# Altium footprint library ARCOM_Transistors.PcbLib: 22 footprints (part 1 of 2)
Each footprint in its own frame and in the unit in brackets; x right, y up, seen from the top. Pads: shape width x height; smd on the part's side, far side on the other; paste and mask are expansions set on the pad; w line width, h text height; cw(c..) or ccw(c..) is an arc to the next point about the centre after c.
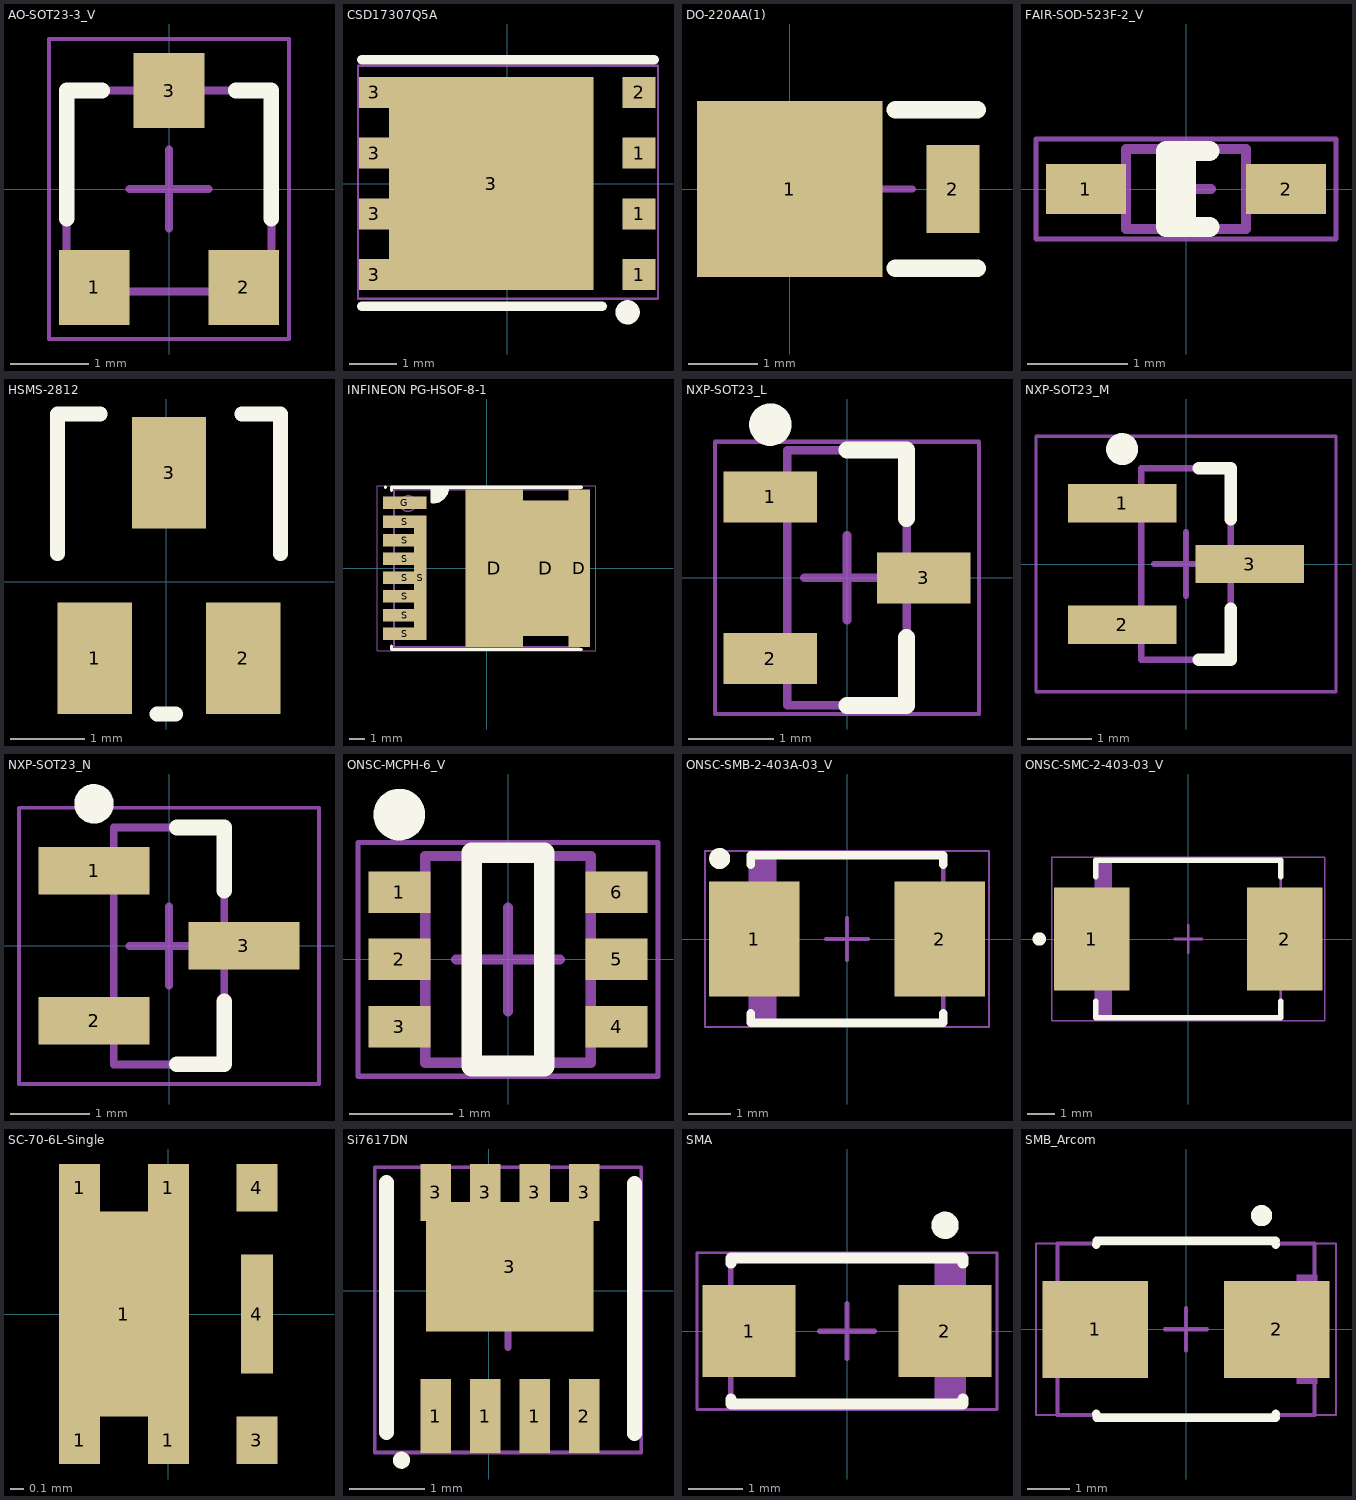
[diagram p0: the footprints below, top view; thin cyan lines are the x and y axes]

## AO-SOT23-3_V [mm] "SOT23, 3-Leads, Body 3.016x2.8mm, Pitch 0.95mm"
pads (3):
  rect 0.9x0.95 smd: 1(-0.95,-1.25) 2(0.95,-1.25) 3(0,1.25)
Top Overlay:
  lines w0.2: -1.3,-0.375 -1.3,1.25 -0.85,1.25 ; 0.85,1.25 1.3,1.25 1.3,-0.375
Mechanical 7:
  rectangle: -0.3,1.25 0.3,1.5
  region: -0.625,-1.275 -1.225,-1.275 -1.225,-1.525 -0.625,-1.525
  region: 1.225,-1.275 0.625,-1.275 0.625,-1.525 1.225,-1.525
  lines w0.1: -1.3,-1.3 -1.3,1.25 1.3,1.25 1.3,-1.3 -1.3,-1.3
M15 Top Assy:
  lines w0.05: -1.524,-1.905 -1.524,1.905 1.524,1.905 1.524,-1.905 -1.524,-1.905
  lines w0.1: -0.5,0 0.5,0 ; 0,-0.5 0,0.5
3D body: height 0.13, standoff 0, extent -0.239,0.651 0.268,1.362
3D body: height 0.13, standoff 0, extent 0.663,-1.254 1.17,-0.543
3D body: height 1.25, standoff 0, extent -1.142,-0.543 1.171,0.651
3D body: height 0.13, standoff 0, extent -1.115,-1.254 -0.608,-0.543

## CSD17307Q5A [mm]
pads (9):
  rect 0.7x0.65 smd mask+0.051: 1(2.752,-1.905) 1(2.752,-0.635) 1(2.752,0.635) 2(2.752,1.905)
  rect 0.63x0.65 smd mask+0.051: 3(-2.788,1.905) 3(-2.787,-1.905) 3(-2.787,-0.635) 3(-2.787,0.635)
  rect 4.27x4.46 smd mask+0.051: 3(-0.337,0)
Top Overlay:
  circle w0.254: c2.515,-2.692 r0.127
  lines w0.2: -3.048,-2.565 1.981,-2.565 ; -3.048,2.591 3.073,2.591
M15 Top Assy:
  lines w0.05: -3.124,-2.413 3.15,-2.413 3.15,2.464 -3.124,2.464 -3.124,-2.413
  lines w0.1: -0.5,0 0.5,0 ; 0,-0.5 0,0.5
3D body "CSD17307Q5A.stp": height 1.15, standoff 0, extent -3.13,-2.438 3.13,2.462

## DO-220AA(1) [mm]
pads (2):
  rect 2.67x2.54 smd: 1(0,0)
  rect 0.762x1.27 smd: 2(2.351,0)
Top Overlay:
  lines w0.254: 1.524,-1.143 2.702,-1.143 ; 1.524,1.143 2.702,1.143
M15 Top Assy:
  lines w0.1: 0.77,0 1.77,0 ; 1.27,-0.5 1.27,0.5
3D body "User Library-DO-220AA-1.STEP": height 1.15, standoff 0, extent -1.221,-1.17 2.708,1.137

## FAIR-SOD-523F-2_V [mm] "SMD, 2-Leads, Body 1.2x0.8mm, Height 0.7mm"
height 0.7
pads (2):
  rect 0.8x0.5 smd: 1(-1,0) 2(1,0)
Top Overlay:
  lines w0.2: 0,-0.381 0,0.381 ; 0.236,-0.381 -0.2,-0.381 -0.2,0.381 0.236,0.381
Mechanical 13:
  lines w0.1: -0.6,-0.4 0.6,-0.4 0.6,0.4 -0.6,0.4 -0.6,-0.4
M15 Top Assy:
  lines w0.05: -1.5,-0.5 1.5,-0.5 1.5,0.5 -1.5,0.5 -1.5,-0.5
  lines w0.1: -0.25,0 0.25,0 ; 0,-0.25 0,0.25
3D body: height 0.71, standoff 0.01, extent -0.6,-0.4 0.6,0.4

## HSMS-2812 [mm]
pads (3):
  rect 1x1.5 smd: 1(-0.964,-1.028) 2(1.036,-1.028) 3(0.036,1.472)
Top Overlay:
  lines w0.2: -1.464,0.381 -1.464,2.262 -0.889,2.262 ; -0.127,-1.778 0.127,-1.778 ; 1.016,2.262 1.536,2.262 ; 1.536,0.381 1.536,2.222

## INFINEON PG-HSOF-8-1 [mm] "SON, 16-Leads, Body 9.90x11.67mm, Pitch 1.20mm, TIPC Medium Density"
height 2.4
pads (12):
  rect 3.7x10.1 smd: D(0.5,0)
  rect 2.9x8.7 smd: D(3.8,0)
  rect 1.4x10.1 smd: D(5.95,0)
  rect 2.8x0.8 smd: G(-5.25,4.2) S(-5.25,-4.2) S(-5.25,-3) S(-5.25,-1.8) S(-5.25,-0.6) S(-5.25,0.6) S(-5.25,1.8) S(-5.25,3)
  rect 0.8x8 smd mask-10: S(-4.25,-0.6)
Top Overlay:
  circle w0.1: c-6.49,5.2 r0.05
  region: -3.5,5.2 -3.5,4.3 -3.45,4.25 -3,4.25 -2.5,4.75 -2.5,5.2
  lines w0.2: -6.09,-5 -6.09,-5.2 6.09,-5.2 ; -6.09,5 -6.09,5.2 6.09,5.2 ; -3.5,5.2 -3.5,4.25 -3.45,4.25 ccw(c-3.45,5.2) -2.5,5.2
Mechanical 13:
  circle w0.1: c-5.04,4.15 r0.5
  lines w0.1: -5.94,-5.05 5.94,-5.05 5.94,5.05 -5.94,5.05 -5.94,-5.05
M15 Top Assy:
  lines w0.05: -7,-5.3 7,-5.3 7,5.3 -7,5.3 -7,-5.3
  lines w0.1: -0.5,0 0.5,0 ; 0,-0.5 0,0.5
3D body "Infineon PG-HSOF-8-1.STEP": height 2.3, standoff 0, extent -5.84,-4.95 5.84,4.95

## NXP-SOT23_L [mm] "SOT23, 3-Leads, Body 3x1.4mm, Pitch 0.95mm, IPC High Density"
height 1.1
pads (3):
  rect 1.1x0.6 smd: 1(-0.9,0.95) 2(-0.9,-0.95) 3(0.9,0)
Top Overlay:
  circle w0.25: c-0.9,1.8 r0.125
  lines w0.2: 0,-1.5 0.7,-1.5 0.7,-0.7 ; 0,1.5 0.7,1.5 0.7,0.7
Mechanical 13:
  lines w0.1: -0.7,-1.5 0.7,-1.5 0.7,1.5 -0.7,1.5 -0.7,-1.5
M15 Top Assy:
  lines w0.05: -1.55,-1.6 1.55,-1.6 1.55,1.6 -1.55,1.6 -1.55,-1.6
  lines w0.1: -0.5,0 0.5,0 ; 0,-0.5 0,0.5
3D body: height 1.1, standoff 0, extent -0.7,-1.5 0.7,1.5

## NXP-SOT23_M [mm] "SOT23, 3-Leads, Body 3x1.4mm, Pitch 0.95mm, IPC Low Density"
height 1.1
pads (3):
  rect 1.7x0.6 smd: 1(-1,0.95) 2(-1,-0.95) 3(1,0)
Top Overlay:
  circle w0.25: c-1,1.8 r0.125
  lines w0.2: 0.2,-1.5 0.7,-1.5 0.7,-0.7 ; 0.2,1.5 0.7,1.5 0.7,0.7
Mechanical 13:
  lines w0.1: -0.7,-1.5 0.7,-1.5 0.7,1.5 -0.7,1.5 -0.7,-1.5
M15 Top Assy:
  lines w0.05: -2.35,-2 2.35,-2 2.35,2 -2.35,2 -2.35,-2
  lines w0.1: -0.5,0 0.5,0 ; 0,-0.5 0,0.5
3D body: height 1.1, standoff 0, extent -0.7,-1.5 0.7,1.5

## NXP-SOT23_N [mm] "SOT23, 3-Leads, Body 3x1.4mm, Pitch 0.95mm, IPC Medium Density"
height 1.1
pads (3):
  rect 1.4x0.6 smd: 1(-0.95,0.95) 2(-0.95,-0.95) 3(0.95,0)
Top Overlay:
  circle w0.25: c-0.95,1.8 r0.125
  lines w0.2: 0.1,-1.5 0.7,-1.5 0.7,-0.7 ; 0.1,1.5 0.7,1.5 0.7,0.7
Mechanical 13:
  lines w0.1: -0.7,-1.5 0.7,-1.5 0.7,1.5 -0.7,1.5 -0.7,-1.5
M15 Top Assy:
  lines w0.05: -1.9,-1.75 1.9,-1.75 1.9,1.75 -1.9,1.75 -1.9,-1.75
  lines w0.1: -0.5,0 0.5,0 ; 0,-0.5 0,0.5
3D body: height 1.1, standoff 0, extent -0.7,-1.5 0.7,1.5

## ONSC-MCPH-6_V [mm] "SOT23, 6-Leads, Body 2x1.6mm, Pitch 0.65mm"
height 0.9
pads (6):
  rect 0.6x0.4 smd: 1(-1.05,0.65) 2(-1.05,0) 3(-1.05,-0.65) 4(1.05,-0.65) 5(1.05,0) 6(1.05,0.65)
Top Overlay:
  circle w0.25: c-1.05,1.4 r0.125
  lines w0.2: -0.35,-1.03 -0.35,1.03 0.35,1.03 0.35,-1.03 -0.35,-1.03
Mechanical 13:
  lines w0.1: -0.8,-1 0.8,-1 0.8,1 -0.8,1 -0.8,-1
M15 Top Assy:
  lines w0.05: -1.45,-1.13 1.45,-1.13 1.45,1.13 -1.45,1.13 -1.45,-1.13
  lines w0.1: -0.5,0 0.5,0 ; 0,-0.5 0,0.5
3D body: height 0.9, standoff 0, extent -0.8,-1 0.8,1

## ONSC-SMB-2-403A-03_V [mm] "Molded, 2-Leads, Body 4.6x3.95mm"
height 2.47
pads (2):
  rect 2.159x2.743 smd: 1(-2.21,0) 2(2.21,0)
Top Overlay:
  circle w0.25: c-3.04,1.921 r0.125
  lines w0.2: -2.3,-1.772 -2.3,-2 2.3,-2 2.3,-1.772 ; -2.3,1.772 -2.3,2 2.3,2 2.3,1.772
Mechanical 13:
  rectangle: -2.3,-1.975 -1.681,1.975
  lines w0.1: -2.3,-1.975 -2.3,1.975 2.3,1.975 2.3,-1.975 -2.3,-1.975
M15 Top Assy:
  lines w0.05: -3.39,-2.1 -3.39,2.1 3.39,2.1 3.39,-2.1 -3.39,-2.1
  lines w0.1: -0.5,0 0.5,0 ; 0,-0.5 0,0.5
3D body "User Library-DIOM5539X24.STEP": height 2.45, standoff 0.03, extent -2.75,-1.95 2.75,1.95

## ONSC-SMC-2-403-03_V [mil] "Molded, 2-Leads, Body 6.86x5.84mm"
height 99.02
pads (2):
  rect 110x150 smd: 1(-140.49,0) 2(140.49,0)
Top Overlay:
  circle w9.84: c-217.15,0 r4.92
  lines w7.87: -135.04,-90.75 -135.04,-114.96 135.04,-114.96 135.04,-90.75 ; -135.04,90.75 -135.04,114.96 135.04,114.96 135.04,90.75
Mechanical 13:
  rectangle: -135.45,-114.96 -111.25,114.96
  lines w3.94: -135.04,-114.96 135.04,-114.96 135.04,114.96 -135.04,114.96 -135.04,-114.96
M15 Top Assy:
  lines w1.97: -199.43,-118.9 199.43,-118.9 199.43,118.9 -199.43,118.9 -199.43,-118.9
  lines w3.94: -19.68,0 19.69,0 ; 0,-19.68 0,19.68
3D body: height 99.02, standoff 1.97, extent -135.04,-114.96 135.04,114.96

## SC-70-6L-Single [mm]
pads (8):
  rect 0.3x0.35 smd mask+0.051: 1(-0.65,-0.925) 1(-0.65,0.925) 1(0,-0.925) 1(0,0.925) 3(0.65,-0.925) 4(0.65,0.925)
  rect 0.95x1.5 smd mask+0.051: 1(-0.325,0)
  rect 0.235x0.87 smd mask+0.051: 4(0.65,0)

## Si7617DN [mm]
pads (9):
  rect 0.405x0.99 smd mask+0.051: 1(-0.713,-1.671) 1(-0.052,-1.671) 1(0.609,-1.671) 2(1.271,-1.671)
  rect 0.405x0.76 smd mask+0.051: 3(-0.713,1.314) 3(-0.052,1.314) 3(0.609,1.314) 3(1.271,1.314)
  rect 2.235x1.725 smd: 3(0.279,0.322)
Top Overlay:
  circle w0.127: c-1.168,-2.261 r0.051
  lines w0.2: -1.37,-1.894 -1.37,1.446 ; 1.94,-1.904 1.94,1.436
M15 Top Assy:
  lines w0.05: -1.524,-2.159 -1.524,1.651 2.032,1.651 2.032,-2.159 -1.524,-2.159
  lines w0.1: -0.246,-0.254 0.754,-0.254 ; 0.254,-0.754 0.254,0.246

## SMA [mm]
pads (2):
  rect 1.7x1.68 smd: 1(-1.79,0) 2(1.79,0)
Top Overlay:
  circle w0.25: c1.79,1.933 r0.125
  lines w0.2: -2.123,-1.24 -2.123,-1.332 2.123,-1.332 2.123,-1.24 ; -2.123,1.24 -2.123,1.332 2.123,1.332 2.123,1.24
Mechanical 13:
  rectangle: 1.6,-1.3 2.1,1.3
  lines w0.1: -2.122,-1.333 -2.122,1.333 2.122,1.333 2.122,-1.333 -2.122,-1.333
M15 Top Assy:
  lines w0.05: -2.74,-1.433 2.74,-1.433 2.74,1.432 -2.74,1.433 -2.74,-1.432
  lines w0.1: -0.5,0 0.5,0 ; 0,-0.5 0,0.5
3D body: height -0.41, standoff -1.67, extent -2.567,-0.725 -1.16,0.725
3D body: height -0.41, standoff -1.67, extent 1.16,-0.725 2.567,0.725
3D body: height 2.29, standoff 0, extent -2.122,-1.333 2.122,1.333

## SMB_Arcom [mm]
pads (2):
  rect 2.5x2.3 smd: 1(-2.15,0) 2(2.15,0)
Top Overlay:
  circle w0.25: c1.79,2.695 r0.125
  lines w0.2: -2.123,-2.002 -2.123,-2.094 2.123,-2.094 2.123,-2.002 ; -2.123,2.002 -2.123,2.094 2.123,2.094 2.123,2.002
Mechanical 13:
  rectangle: 2.616,-1.3 3.116,1.3
  lines w0.1: -3.048,-2.032 3.048,-2.032 3.048,2.032 -3.048,2.032 -3.048,-2.032
M15 Top Assy:
  lines w0.05: -3.556,-2.032 -3.556,2.032 3.556,2.032 3.556,-2.032 -3.556,-2.032
  lines w0.1: -0.5,0 0.5,0 ; 0,-0.5 0,0.5
3D body "SW3dPS-DO-214AA SMB.STEP": height 2.3, standoff 0, extent -2.7,-1.8 2.7,1.8